# EAGLE library part BLUETOOTH_2_STICK (library systas0)
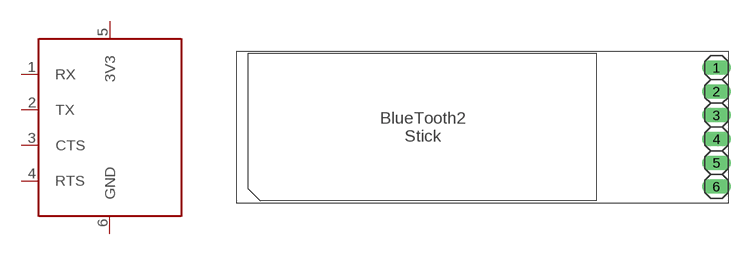
[diagram p15: symbol with the pads of BLUETOOTH_2_STICK; footprint BLUETOOTH_2_STICK]

Designator prefix -

## BLUETOOTH_2_STICK  [BLUETOOTH_2_STICK]
1  RX
2  TX
3  CTS
4  RTS
5  3V3
6  GND

## Footprint BLUETOOTH_2_STICK (pad centres in mm)
drill 1.016 long: 1 0,6.35; 2 0,3.81; 3 0,1.27; 4 0,-1.27; 5 0,-3.81; 6 0,-6.35